# Altium schematic symbol library Conn-8pos.SchLib: 1 symbol
Pins are listed as number, name and electrical type; pins without a type are passive.

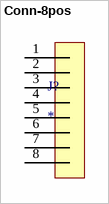
[diagram p0: symbol Conn-8pos]

## Conn-8pos
designator J?
pins: 1, 2, 3, 4, 5, 6, 7, 8